# Altium footprint library SOT.PcbLib: 20 footprints (part 1 of 2)
Each footprint in its own frame and in the unit in brackets; x right, y up, seen from the top. Pads: shape width x height; smd on the part's side, far side on the other; paste and mask are expansions set on the pad; w line width, h text height; cw(c..) or ccw(c..) is an arc to the next point about the centre after c.
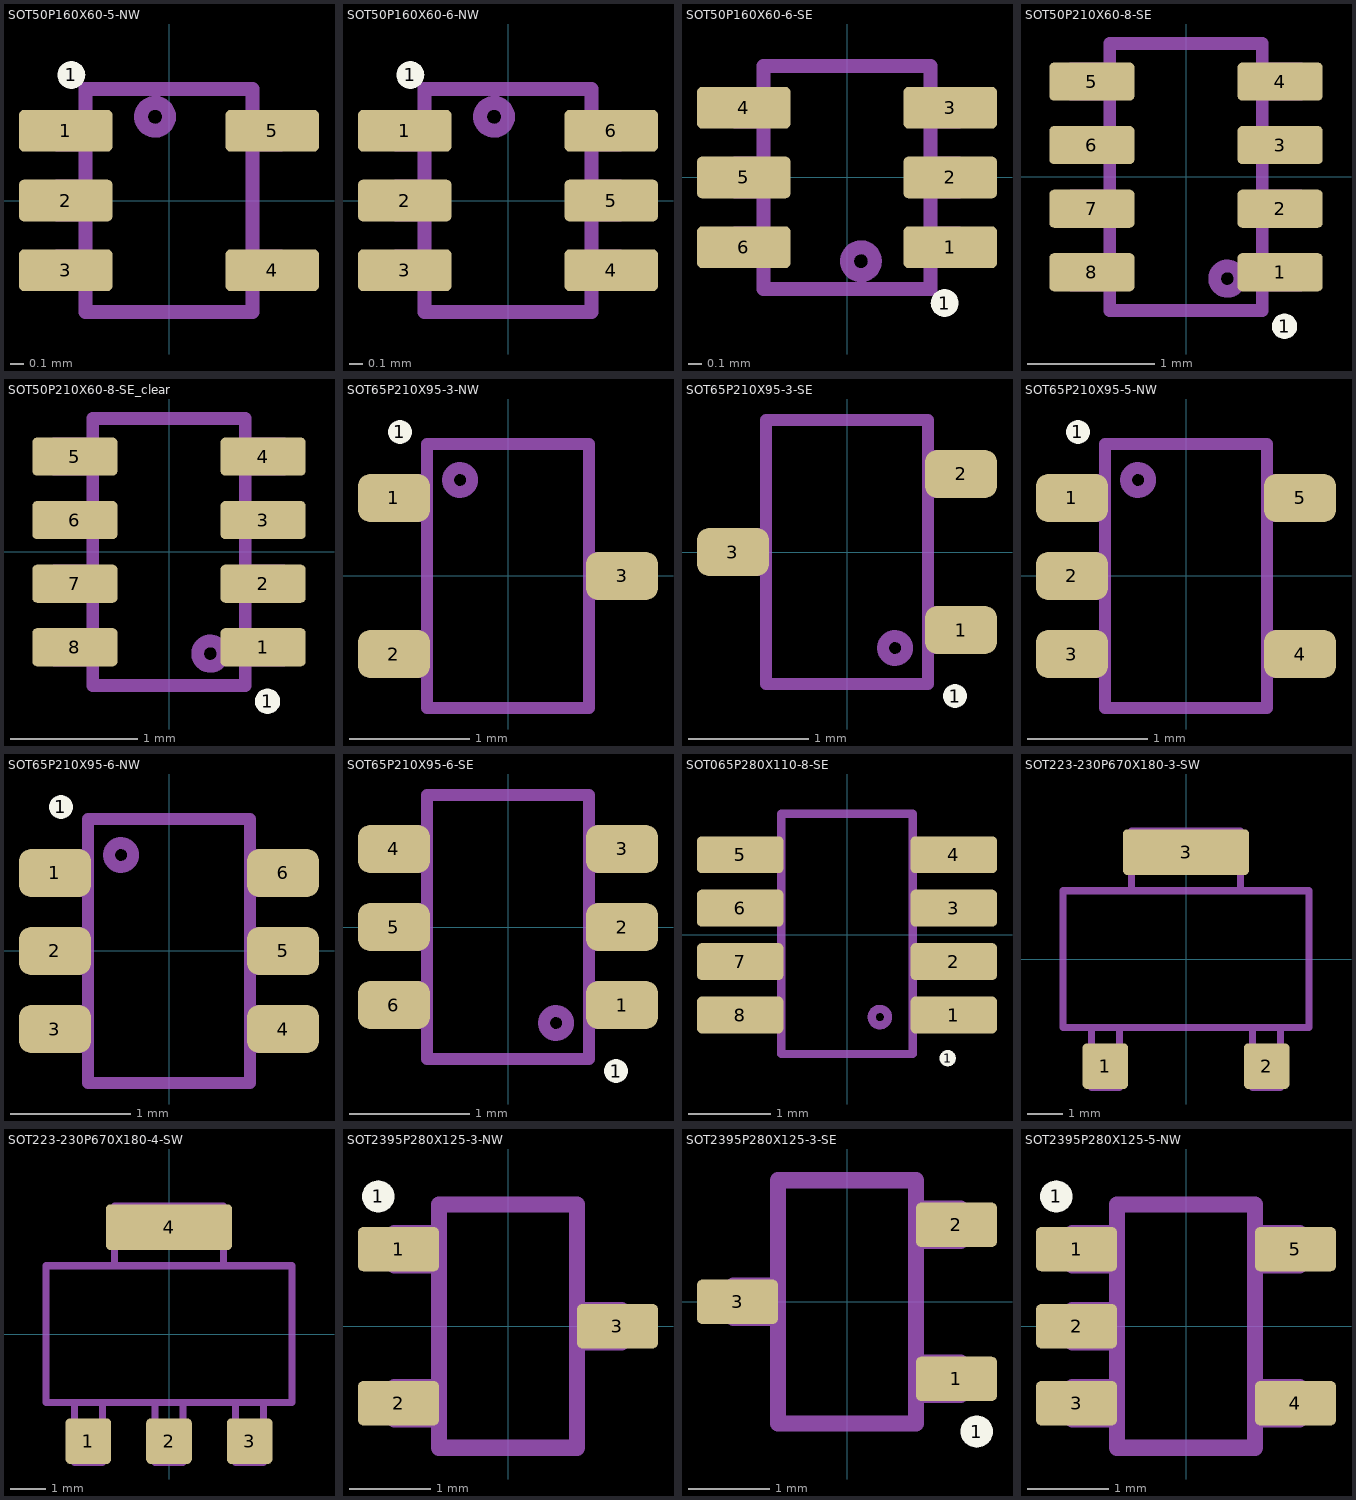
[diagram p0: the footprints below, top view; thin cyan lines are the x and y axes]

## SOT50P160X60-5-NW [mm] "SOT563"
height 0.6
pads (6):
  rrect25% 0.67x0.3 smd: 1(-0.74,0.5) 2(-0.74,0) 3(-0.74,-0.5) 4(0.74,-0.5) 5(0.74,0.5)
  round 0.2 on Top Overlay: 1(-0.7,0.9)
Top Assembly:
  circle w0.1: c-0.1,0.6 r0.1
  lines w0.1: -0.6,-0.6 -0.8,-0.6 -0.8,-0.4 -0.6,-0.4 ; -0.6,-0.1 -0.8,-0.1 -0.8,0.1 -0.6,0.1 ; -0.6,0.4 -0.8,0.4 -0.8,0.6 -0.6,0.6 ; 0.6,-0.6 0.8,-0.6 0.8,-0.4 0.6,-0.4 ; 0.6,0.4 0.8,0.4 0.8,0.6 0.6,0.6 ; -0.6,-0.8 0.6,-0.8 0.6,0.8 -0.6,0.8 -0.6,-0.8
3D body "SOT050P160X60-SOT553.stp": height 0.6, standoff 0, extent -0.8,-0.8 0.8,0.8

## SOT50P160X60-6-NW [mm] "SOT563"
height 0.6
pads (7):
  rrect25% 0.67x0.3 smd: 1(-0.74,0.5) 2(-0.74,0) 3(-0.74,-0.5) 4(0.74,-0.5) 5(0.74,0) 6(0.74,0.5)
  round 0.2 on Top Overlay: 1(-0.7,0.9)
Top Assembly:
  circle w0.1: c-0.1,0.6 r0.1
  lines w0.1: -0.6,-0.6 -0.8,-0.6 -0.8,-0.4 -0.6,-0.4 ; -0.6,-0.1 -0.8,-0.1 -0.8,0.1 -0.6,0.1 ; -0.6,0.4 -0.8,0.4 -0.8,0.6 -0.6,0.6 ; 0.6,-0.6 0.8,-0.6 0.8,-0.4 0.6,-0.4 ; 0.6,-0.1 0.8,-0.1 0.8,0.1 0.6,0.1 ; 0.6,0.4 0.8,0.4 0.8,0.6 0.6,0.6 ; -0.6,-0.8 -0.6,0.8 0.6,0.8 0.6,-0.8 -0.6,-0.8
3D body "SOT50P160X60-6.stp": height 0.6, standoff 0, extent -0.8,-0.8 0.8,0.8

## SOT50P160X60-6-SE [mm] "SOT563"
height 0.6
pads (7):
  round 0.2 on Top Overlay: 1(0.7,-0.9)
  rrect25% 0.67x0.3 smd: 1(0.74,-0.5) 2(0.74,0) 3(0.74,0.5) 4(-0.74,0.5) 5(-0.74,0) 6(-0.74,-0.5)
Top Assembly:
  circle w0.1: c0.1,-0.6 r0.1
  lines w0.1: -0.6,-0.6 -0.8,-0.6 -0.8,-0.4 -0.6,-0.4 ; -0.6,-0.1 -0.8,-0.1 -0.8,0.1 -0.6,0.1 ; -0.6,0.4 -0.8,0.4 -0.8,0.6 -0.6,0.6 ; 0.6,-0.6 0.8,-0.6 0.8,-0.4 0.6,-0.4 ; 0.6,-0.1 0.8,-0.1 0.8,0.1 0.6,0.1 ; 0.6,0.4 0.8,0.4 0.8,0.6 0.6,0.6 ; -0.6,-0.8 0.6,-0.8 0.6,0.8 -0.6,0.8 -0.6,-0.8
3D body "SOT50P160X60-6.stp": height 0.6, standoff 0, extent -0.8,-0.8 0.8,0.8

## SOT50P210X60-8-SE [mm] "SOT583"
height 0.6
pads (9):
  rrect25% 0.67x0.3 smd: 1(0.74,-0.75) 2(0.74,-0.25) 3(0.74,0.25) 4(0.74,0.75) 5(-0.74,0.75) 6(-0.74,0.25) 7(-0.74,-0.25) 8(-0.74,-0.75)
  round 0.2 on Top Overlay: 1(0.775,-1.175)
Top Assembly:
  circle w0.1: c0.325,-0.8 r0.1
  lines w0.1: -0.6,-0.85 -0.9,-0.85 -0.9,-0.65 -0.6,-0.65 ; -0.6,-0.35 -0.9,-0.35 -0.9,-0.15 -0.6,-0.15 ; -0.6,0.15 -0.9,0.15 -0.9,0.35 -0.6,0.35 ; -0.6,0.65 -0.9,0.65 -0.9,0.85 -0.6,0.85 ; 0.6,-0.85 0.9,-0.85 0.9,-0.65 0.6,-0.65 ; 0.6,-0.35 0.9,-0.35 0.9,-0.15 0.6,-0.15 ; 0.6,0.15 0.9,0.15 0.9,0.35 0.6,0.35 ; 0.6,0.65 0.9,0.65 0.9,0.85 0.6,0.85 ; -0.6,-1.05 0.6,-1.05 0.6,1.05 -0.6,1.05 -0.6,-1.05
3D body "SOT50P160X60-8-SE_SOT583.stp": height 0.6, standoff 0, extent -0.8,-1.05 0.8,1.05

## SOT50P210X60-8-SE_clear [mm] "SOT583"
height 0.6
pads (9):
  rrect25% 0.67x0.3 smd: 1(0.74,-0.75) 2(0.74,-0.25) 3(0.74,0.25) 4(0.74,0.75) 5(-0.74,0.75) 6(-0.74,0.25) 7(-0.74,-0.25) 8(-0.74,-0.75)
  round 0.2 on Top Overlay: 1(0.775,-1.175)
Top Assembly:
  circle w0.1: c0.325,-0.8 r0.1
  lines w0.1: -0.6,-0.85 -0.9,-0.85 -0.9,-0.65 -0.6,-0.65 ; -0.6,-0.35 -0.9,-0.35 -0.9,-0.15 -0.6,-0.15 ; -0.6,0.15 -0.9,0.15 -0.9,0.35 -0.6,0.35 ; -0.6,0.65 -0.9,0.65 -0.9,0.85 -0.6,0.85 ; 0.6,-0.85 0.9,-0.85 0.9,-0.65 0.6,-0.65 ; 0.6,-0.35 0.9,-0.35 0.9,-0.15 0.6,-0.15 ; 0.6,0.15 0.9,0.15 0.9,0.35 0.6,0.35 ; 0.6,0.65 0.9,0.65 0.9,0.85 0.6,0.85 ; -0.6,-1.05 0.6,-1.05 0.6,1.05 -0.6,1.05 -0.6,-1.05
3D body "SOT50P160X60-8-SOT583_clear.stp": height 0.6, standoff 0, extent -0.8,-1.05 0.8,1.05

## SOT65P210X95-3-NW [mm] "SOT-323"
pads (4):
  rrect50% 0.6x0.4 smd: 1(-0.95,0.65) 2(-0.95,-0.65) 3(0.95,0)
  round 0.2 on Top Overlay: 1(-0.9,1.2)
Top Assembly:
  circle w0.1: c-0.4,0.8 r0.1
  lines w0.1: -0.675,-0.8 -1.1,-0.8 -1.1,-0.5 -0.675,-0.5 ; -0.675,0.5 -1.1,0.5 -1.1,0.8 -0.675,0.8 ; 1.1,-0.15 0.675,-0.15 1.1,-0.15 ; 1.1,-0.15 1.1,0.15 ; 1.1,-0.15 1.1,0.15 ; 1.1,0.15 0.675,0.15 1.1,0.15 ; -0.675,-1.1 -0.675,1.1 0.675,1.1 0.675,-1.1 -0.675,-1.1
3D body: height 1.1, standoff 0, extent -0.675,-1.1 0.675,1.1
3D body: height 1.11, standoff 1.1, extent -0.538,0.643 -0.238,0.943
3D body: height 0.15, standoff 0, extent 0.75,-0.15 1.1,0.15
3D body: height 0.65, standoff 0.15, extent 0.75,-0.15 0.9,0.15
3D body: height 0.8, standoff 0.65, extent 0.675,-0.15 0.9,0.15
3D body: height 0.8, standoff 0.65, extent -0.9,-0.8 -0.675,-0.5
3D body: height 0.65, standoff 0.15, extent -0.9,-0.8 -0.75,-0.5
3D body: height 0.15, standoff 0, extent -1.1,-0.8 -0.75,-0.5
3D body: height 0.8, standoff 0.65, extent -0.9,0.5 -0.675,0.8
3D body: height 0.65, standoff 0.15, extent -0.9,0.5 -0.75,0.8
3D body: height 0.15, standoff 0, extent -1.1,0.5 -0.75,0.8

## SOT65P210X95-3-SE [mm] "SOT-323"
pads (4):
  round 0.2 on Top Overlay: 1(0.9,-1.2)
  rrect50% 0.6x0.4 smd: 1(0.95,-0.65) 2(0.95,0.65) 3(-0.95,0)
Top Assembly:
  circle w0.1: c0.4,-0.8 r0.1
  lines w0.1: 0.675,-0.8 1.1,-0.8 1.1,-0.5 0.675,-0.5 ; 0.675,0.5 1.1,0.5 1.1,0.8 0.675,0.8 ; -1.1,-0.15 -1.1,0.15 ; -1.1,-0.15 -0.675,-0.15 -1.1,-0.15 ; -1.1,-0.15 -1.1,0.15 ; -1.1,0.15 -0.675,0.15 -1.1,0.15 ; -0.675,-1.1 0.675,-1.1 0.675,1.1 -0.675,1.1 -0.675,-1.1
3D body: height 0.15, standoff 0, extent 0.75,-0.8 1.1,-0.5
3D body: height 0.65, standoff 0.15, extent 0.75,-0.8 0.9,-0.5
3D body: height 0.8, standoff 0.65, extent 0.675,-0.8 0.9,-0.5
3D body: height 0.15, standoff 0, extent 0.75,0.5 1.1,0.8
3D body: height 0.65, standoff 0.15, extent 0.75,0.5 0.9,0.8
3D body: height 0.8, standoff 0.65, extent 0.675,0.5 0.9,0.8
3D body: height 0.8, standoff 0.65, extent -0.9,-0.15 -0.675,0.15
3D body: height 0.65, standoff 0.15, extent -0.9,-0.15 -0.75,0.15
3D body: height 0.15, standoff 0, extent -1.1,-0.15 -0.75,0.15
3D body: height 1.11, standoff 1.1, extent 0.238,-0.943 0.538,-0.643
3D body: height 1.1, standoff 0, extent -0.675,-1.1 0.675,1.1

## SOT65P210X95-5-NW [mm] "SC70-5"
pads (6):
  rrect50% 0.6x0.4 smd: 1(-0.95,0.65) 2(-0.95,0) 3(-0.95,-0.65) 4(0.95,-0.65) 5(0.95,0.65)
  round 0.2 on Top Overlay: 1(-0.9,1.2)
Top Assembly:
  circle w0.1: c-0.4,0.8 r0.1
  lines w0.1: -0.675,-0.8 -1.1,-0.8 -1.1,-0.5 -0.675,-0.5 ; -0.675,-0.15 -1.1,-0.15 -1.1,0.15 -0.675,0.15 ; -0.675,0.5 -1.1,0.5 -1.1,0.8 -0.675,0.8 ; 1.1,-0.8 0.675,-0.8 1.1,-0.8 ; 1.1,-0.8 1.1,-0.5 ; 1.1,-0.8 1.1,-0.5 ; 1.1,-0.5 0.675,-0.5 1.1,-0.5 ; 1.1,0.5 0.675,0.5 1.1,0.5 ; 1.1,0.5 1.1,0.8 ; 1.1,0.5 1.1,0.8 ; 1.1,0.8 0.675,0.8 1.1,0.8 ; -0.675,-1.1 -0.675,1.1 0.675,1.1 0.675,-1.1 -0.675,-1.1
3D body: height 1.1, standoff 0, extent -0.675,-1.1 0.675,1.1
3D body: height 1.11, standoff 1.1, extent -0.538,0.643 -0.238,0.943
3D body: height 0.15, standoff 0, extent 0.75,0.5 1.1,0.8
3D body: height 0.65, standoff 0.15, extent 0.75,0.5 0.9,0.8
3D body: height 0.8, standoff 0.65, extent 0.675,0.5 0.9,0.8
3D body: height 0.15, standoff 0, extent 0.75,-0.8 1.1,-0.5
3D body: height 0.65, standoff 0.15, extent 0.75,-0.8 0.9,-0.5
3D body: height 0.8, standoff 0.65, extent 0.675,-0.8 0.9,-0.5
3D body: height 0.8, standoff 0.65, extent -0.9,-0.8 -0.675,-0.5
3D body: height 0.65, standoff 0.15, extent -0.9,-0.8 -0.75,-0.5
3D body: height 0.15, standoff 0, extent -1.1,-0.8 -0.75,-0.5
3D body: height 0.8, standoff 0.65, extent -0.9,-0.15 -0.675,0.15
3D body: height 0.65, standoff 0.15, extent -0.9,-0.15 -0.75,0.15
3D body: height 0.15, standoff 0, extent -1.1,-0.15 -0.75,0.15
3D body: height 0.8, standoff 0.65, extent -0.9,0.5 -0.675,0.8
3D body: height 0.65, standoff 0.15, extent -0.9,0.5 -0.75,0.8
3D body: height 0.15, standoff 0, extent -1.1,0.5 -0.75,0.8

## SOT65P210X95-6-NW [mm] "SOT-363"
pads (7):
  rrect50% 0.6x0.4 smd: 1(-0.95,0.65) 2(-0.95,0) 3(-0.95,-0.65) 4(0.95,-0.65) 5(0.95,0) 6(0.95,0.65)
  round 0.2 on Top Overlay: 1(-0.9,1.2)
Top Assembly:
  circle w0.1: c-0.4,0.8 r0.1
  lines w0.1: -0.675,-0.8 -1.1,-0.8 -1.1,-0.5 -0.675,-0.5 ; -0.675,-0.15 -1.1,-0.15 -1.1,0.15 -0.675,0.15 ; -0.675,0.5 -1.1,0.5 -1.1,0.8 -0.675,0.8 ; 1.1,-0.8 0.675,-0.8 1.1,-0.8 ; 1.1,-0.8 1.1,-0.5 ; 1.1,-0.8 1.1,-0.5 ; 1.1,-0.5 0.675,-0.5 1.1,-0.5 ; 1.1,-0.15 0.675,-0.15 1.1,-0.15 ; 1.1,-0.15 1.1,0.15 ; 1.1,-0.15 1.1,0.15 ; 1.1,0.15 0.675,0.15 1.1,0.15 ; 1.1,0.5 0.675,0.5 1.1,0.5 ; 1.1,0.5 1.1,0.8 ; 1.1,0.5 1.1,0.8 ; 1.1,0.8 0.675,0.8 1.1,0.8 ; -0.675,-1.1 -0.675,1.1 0.675,1.1 0.675,-1.1 -0.675,-1.1
3D body: height 1.1, standoff 0, extent -0.675,-1.1 0.675,1.1
3D body: height 1.11, standoff 1.1, extent -0.538,0.643 -0.238,0.943
3D body: height 0.15, standoff 0, extent 0.75,0.5 1.1,0.8
3D body: height 0.65, standoff 0.15, extent 0.75,0.5 0.9,0.8
3D body: height 0.8, standoff 0.65, extent 0.675,0.5 0.9,0.8
3D body: height 0.15, standoff 0, extent 0.75,-0.15 1.1,0.15
3D body: height 0.65, standoff 0.15, extent 0.75,-0.15 0.9,0.15
3D body: height 0.8, standoff 0.65, extent 0.675,-0.15 0.9,0.15
3D body: height 0.15, standoff 0, extent 0.75,-0.8 1.1,-0.5
3D body: height 0.65, standoff 0.15, extent 0.75,-0.8 0.9,-0.5
3D body: height 0.8, standoff 0.65, extent 0.675,-0.8 0.9,-0.5
3D body: height 0.8, standoff 0.65, extent -0.9,-0.8 -0.675,-0.5
3D body: height 0.65, standoff 0.15, extent -0.9,-0.8 -0.75,-0.5
3D body: height 0.15, standoff 0, extent -1.1,-0.8 -0.75,-0.5
3D body: height 0.8, standoff 0.65, extent -0.9,-0.15 -0.675,0.15
3D body: height 0.65, standoff 0.15, extent -0.9,-0.15 -0.75,0.15
3D body: height 0.15, standoff 0, extent -1.1,-0.15 -0.75,0.15
3D body: height 0.8, standoff 0.65, extent -0.9,0.5 -0.675,0.8
3D body: height 0.65, standoff 0.15, extent -0.9,0.5 -0.75,0.8
3D body: height 0.15, standoff 0, extent -1.1,0.5 -0.75,0.8

## SOT65P210X95-6-SE [mm] "SOT-363"
pads (7):
  round 0.2 on Top Overlay: 1(0.9,-1.2)
  rrect50% 0.6x0.4 smd: 1(0.95,-0.65) 2(0.95,0) 3(0.95,0.65) 4(-0.95,0.65) 5(-0.95,0) 6(-0.95,-0.65)
Top Assembly:
  circle w0.1: c0.4,-0.8 r0.1
  lines w0.1: 0.675,-0.8 1.1,-0.8 1.1,-0.5 0.675,-0.5 ; 0.675,-0.15 1.1,-0.15 1.1,0.15 0.675,0.15 ; 0.675,0.5 1.1,0.5 1.1,0.8 0.675,0.8 ; -1.1,-0.8 -1.1,-0.5 ; -1.1,-0.8 -0.675,-0.8 -1.1,-0.8 ; -1.1,-0.8 -1.1,-0.5 ; -1.1,-0.5 -0.675,-0.5 -1.1,-0.5 ; -1.1,-0.15 -1.1,0.15 ; -1.1,-0.15 -0.675,-0.15 -1.1,-0.15 ; -1.1,-0.15 -1.1,0.15 ; -1.1,0.15 -0.675,0.15 -1.1,0.15 ; -1.1,0.5 -1.1,0.8 ; -1.1,0.5 -0.675,0.5 -1.1,0.5 ; -1.1,0.5 -1.1,0.8 ; -1.1,0.8 -0.675,0.8 -1.1,0.8 ; -0.675,-1.1 0.675,-1.1 0.675,1.1 -0.675,1.1 -0.675,-1.1
3D body: height 0.15, standoff 0, extent 0.75,-0.8 1.1,-0.5
3D body: height 0.65, standoff 0.15, extent 0.75,-0.8 0.9,-0.5
3D body: height 0.8, standoff 0.65, extent 0.675,-0.8 0.9,-0.5
3D body: height 0.15, standoff 0, extent 0.75,-0.15 1.1,0.15
3D body: height 0.65, standoff 0.15, extent 0.75,-0.15 0.9,0.15
3D body: height 0.8, standoff 0.65, extent 0.675,-0.15 0.9,0.15
3D body: height 0.15, standoff 0, extent 0.75,0.5 1.1,0.8
3D body: height 0.65, standoff 0.15, extent 0.75,0.5 0.9,0.8
3D body: height 0.8, standoff 0.65, extent 0.675,0.5 0.9,0.8
3D body: height 0.8, standoff 0.65, extent -0.9,0.5 -0.675,0.8
3D body: height 0.65, standoff 0.15, extent -0.9,0.5 -0.75,0.8
3D body: height 0.15, standoff 0, extent -1.1,0.5 -0.75,0.8
3D body: height 0.8, standoff 0.65, extent -0.9,-0.15 -0.675,0.15
3D body: height 0.65, standoff 0.15, extent -0.9,-0.15 -0.75,0.15
3D body: height 0.15, standoff 0, extent -1.1,-0.15 -0.75,0.15
3D body: height 0.8, standoff 0.65, extent -0.9,-0.8 -0.675,-0.5
3D body: height 0.65, standoff 0.15, extent -0.9,-0.8 -0.75,-0.5
3D body: height 0.15, standoff 0, extent -1.1,-0.8 -0.75,-0.5
3D body: height 1.11, standoff 1.1, extent 0.238,-0.943 0.538,-0.643
3D body: height 1.1, standoff 0, extent -0.675,-1.1 0.675,1.1

## SOT065P280X110-8-SE [mm] "SOT23-8"
height 0.6
pads (9):
  round 0.2 on Top Overlay: 1(1.225,-1.5)
  rrect25% 1.05x0.45 smd: 1(1.3,-0.975) 2(1.3,-0.325) 3(1.3,0.325) 4(1.3,0.975) 5(-1.3,0.975) 6(-1.3,0.325) 7(-1.3,-0.325) 8(-1.3,-0.975)
Top Assembly:
  circle w0.1: c0.4,-1 r0.1
  lines w0.1: -0.8,-1.075 -1.46,-1.075 -1.46,-0.875 -0.8,-0.874 ; -0.8,-0.423 -1.46,-0.425 -1.46,-0.225 -0.8,-0.222 ; -0.8,0.225 -1.46,0.225 -1.46,0.425 -0.8,0.425 ; -0.8,0.875 -1.46,0.875 -1.46,1.075 -0.8,1.07 ; 0.8,-1.075 1.46,-1.075 1.46,-0.875 0.8,-0.875 ; 0.8,-0.425 1.46,-0.425 1.46,-0.225 0.8,-0.225 ; 0.8,0.225 1.46,0.225 1.46,0.425 0.8,0.425 ; 0.8,0.875 1.46,0.875 1.46,1.075 0.8,1.075 ; -0.8,-1.45 0.8,-1.45 0.8,1.475 -0.8,1.475 -0.8,-1.45
3D body: height 1, standoff 0.87, extent -1.1,-1.125 -0.8,-0.825
3D body: height 0.87, standoff 0.13, extent -1.1,-1.125 -0.95,-0.825
3D body: height 0.13, standoff 0, extent -1.4,-1.125 -0.95,-0.825
3D body: height 1, standoff 0.87, extent -1.1,-0.475 -0.8,-0.175
3D body: height 0.87, standoff 0.13, extent -1.1,-0.475 -0.95,-0.175
3D body: height 0.13, standoff 0, extent -1.4,-0.475 -0.95,-0.175
3D body: height 1, standoff 0.87, extent -1.1,0.175 -0.8,0.475
3D body: height 0.87, standoff 0.13, extent -1.1,0.175 -0.95,0.475
3D body: height 0.13, standoff 0, extent -1.4,0.175 -0.95,0.475
3D body: height 1, standoff 0.87, extent -1.1,0.825 -0.8,1.125
3D body: height 0.87, standoff 0.13, extent -1.1,0.825 -0.95,1.125
3D body: height 0.13, standoff 0, extent -1.4,0.825 -0.95,1.125
3D body: height 1, standoff 0.87, extent 0.8,0.825 1.1,1.125
3D body: height 0.87, standoff 0.13, extent 0.95,0.825 1.1,1.125
3D body: height 0.13, standoff 0, extent 0.95,0.825 1.4,1.125
3D body: height 1, standoff 0.87, extent 0.8,0.175 1.1,0.475
3D body: height 0.87, standoff 0.13, extent 0.95,0.175 1.1,0.475
3D body: height 0.13, standoff 0, extent 0.95,0.175 1.4,0.475
3D body: height 1, standoff 0.87, extent 0.8,-0.475 1.1,-0.175
3D body: height 0.87, standoff 0.13, extent 0.95,-0.475 1.1,-0.175
3D body: height 0.13, standoff 0, extent 0.95,-0.475 1.4,-0.175
3D body: height 1.26, standoff 1.25, extent 0.2,-1.199 0.6,-0.801
3D body: height 1, standoff 0.87, extent 0.8,-1.125 1.1,-0.825
3D body: height 0.87, standoff 0.13, extent 0.95,-1.125 1.1,-0.825
3D body: height 0.13, standoff 0, extent 0.95,-1.125 1.4,-0.825
3D body: height 1.1, standoff 0.1, extent -0.8,-1.45 0.8,1.45

## SOT223-230P670X180-3-SW [mm]
pads (3):
  rrect20% 1.3x1.3 smd: 1(-2.3,-3.05) 2(2.3,-3.05)
  rrect20% 3.6x1.3 smd: 3(0,3.05)
Top Assembly:
  lines w0.2: -2.7,-1.95 -2.7,-3.65 -1.9,-3.65 -1.9,-1.95 ; -1.55,1.95 -1.55,3.65 1.55,3.65 1.55,1.95 ; 1.9,-1.95 1.9,-3.65 2.7,-3.65 2.7,-1.95 ; -3.5,-1.95 3.5,-1.95 3.5,1.95 -3.5,1.95 -3.5,-1.95
3D body: height 0.91, standoff 0.01, extent 1.9,-3.65 2.7,-1.95
3D body: height 0.91, standoff 0.01, extent -2.7,-3.65 -1.9,-1.95
3D body: height 0.91, standoff 0.01, extent -1.55,1.95 1.55,3.65
3D body: height 1.8, standoff 0.05, extent -3.5,-1.95 3.5,1.95

## SOT223-230P670X180-4-SW [mm]
pads (4):
  rrect20% 1.3x1.3 smd: 1(-2.3,-3.05) 2(0,-3.05) 3(2.3,-3.05)
  rrect20% 3.6x1.3 smd: 4(0,3.05)
Top Assembly:
  lines w0.2: -2.7,-1.95 -2.7,-3.65 -1.9,-3.65 -1.9,-1.95 ; -1.55,1.95 -1.55,3.65 1.55,3.65 1.55,1.95 ; -0.4,-1.95 -0.4,-3.65 0.4,-3.65 0.4,-1.95 ; 1.9,-1.95 1.9,-3.65 2.7,-3.65 2.7,-1.95 ; -3.5,-1.95 3.5,-1.95 3.5,1.95 -3.5,1.95 -3.5,-1.95
3D body: height 0.91, standoff 0.01, extent 1.9,-3.65 2.7,-1.95
3D body: height 0.91, standoff 0.01, extent -2.7,-3.65 -1.9,-1.95
3D body: height 0.91, standoff 0.01, extent -1.55,1.95 1.55,3.65
3D body: height 0.91, standoff 0.01, extent -0.4,-3.65 0.4,-1.95
3D body: height 1.8, standoff 0.05, extent -3.5,-1.95 3.5,1.95

## SOT2395P280X125-3-NW [mm] "SOT23-3, SC74"
pads (4):
  round 0.4 on Top Overlay: 1(-1.6,1.6)
  rrect25% 1x0.55 smd: 1(-1.35,0.95) 2(-1.35,-0.95) 3(1.35,0)
Top Assembly:
  lines w0.2: -0.85,-1.15 -1.4,-1.15 -1.4,-0.75 -0.85,-0.75 ; -0.85,0.75 -1.4,0.75 -1.4,1.15 -0.85,1.15 ; 0.85,-0.2 1.4,-0.2 1.4,0.2 0.85,0.2 ; -0.85,-1.5 0.85,-1.5 0.85,1.5 -0.85,1.5 -0.85,-1.5
3D body: height 1.25, standoff 0.1, extent -0.8,-1.45 0.8,1.45
3D body: height 0.13, standoff 0, extent -1.4,0.75 -0.95,1.15
3D body: height 0.87, standoff 0.13, extent -1.1,0.75 -0.95,1.15
3D body: height 1, standoff 0.87, extent -1.1,0.75 -0.8,1.15
3D body: height 0.13, standoff 0, extent -1.4,-1.15 -0.95,-0.75
3D body: height 0.87, standoff 0.13, extent -1.1,-1.15 -0.95,-0.75
3D body: height 1, standoff 0.87, extent -1.1,-1.15 -0.8,-0.75
3D body: height 0.13, standoff 0, extent 0.95,-0.2 1.4,0.2
3D body: height 0.87, standoff 0.13, extent 0.95,-0.2 1.1,0.2
3D body: height 1, standoff 0.87, extent 0.8,-0.2 1.1,0.2
3D body: height 1.26, standoff 1.25, extent -0.6,0.801 -0.2,1.199

## SOT2395P280X125-3-SE [mm] "SOT23-3, SC74"
pads (4):
  rrect25% 1x0.55 smd: 1(1.35,-0.95) 2(1.35,0.95) 3(-1.35,0)
  round 0.4 on Top Overlay: 1(1.6,-1.6)
Top Assembly:
  lines w0.2: -0.85,-0.2 -1.4,-0.2 -1.4,0.2 -0.85,0.2 ; 0.85,-1.15 1.4,-1.15 1.4,-0.75 0.85,-0.75 ; 0.85,0.75 1.4,0.75 1.4,1.15 0.85,1.15 ; -0.85,-1.5 -0.85,1.5 0.85,1.5 0.85,-1.5 -0.85,-1.5
3D body: height 1.26, standoff 1.25, extent 0.2,-1.199 0.6,-0.801
3D body: height 1, standoff 0.87, extent -1.1,-0.2 -0.8,0.2
3D body: height 0.87, standoff 0.13, extent -1.1,-0.2 -0.95,0.2
3D body: height 0.13, standoff 0, extent -1.4,-0.2 -0.95,0.2
3D body: height 1, standoff 0.87, extent 0.8,0.75 1.1,1.15
3D body: height 0.87, standoff 0.13, extent 0.95,0.75 1.1,1.15
3D body: height 0.13, standoff 0, extent 0.95,0.75 1.4,1.15
3D body: height 1, standoff 0.87, extent 0.8,-1.15 1.1,-0.75
3D body: height 0.87, standoff 0.13, extent 0.95,-1.15 1.1,-0.75
3D body: height 0.13, standoff 0, extent 0.95,-1.15 1.4,-0.75
3D body: height 1.25, standoff 0.1, extent -0.8,-1.45 0.8,1.45

## SOT2395P280X125-5-NW [mm] "SOT23-5"
pads (6):
  round 0.4 on Top Overlay: 1(-1.6,1.6)
  rrect25% 1x0.55 smd: 1(-1.35,0.95) 2(-1.35,0) 3(-1.35,-0.95) 4(1.35,-0.95) 5(1.35,0.95)
Top Assembly:
  lines w0.2: -0.85,-1.15 -1.4,-1.15 -1.4,-0.75 -0.85,-0.75 ; -0.85,-0.2 -1.4,-0.2 -1.4,0.2 -0.85,0.2 ; -0.85,0.75 -1.4,0.75 -1.4,1.15 -0.85,1.15 ; 0.85,-1.15 1.4,-1.15 1.4,-0.75 0.85,-0.75 ; 0.85,0.75 1.4,0.75 1.4,1.15 0.85,1.15 ; -0.85,-1.5 -0.85,1.5 0.85,1.5 0.85,-1.5 -0.85,-1.5
3D body: height 1.26, standoff 1.25, extent -0.6,0.801 -0.2,1.199
3D body: height 1, standoff 0.87, extent 0.8,0.75 1.1,1.15
3D body: height 0.87, standoff 0.13, extent 0.95,0.75 1.1,1.15
3D body: height 0.13, standoff 0, extent 0.95,0.75 1.4,1.15
3D body: height 1, standoff 0.87, extent 0.8,-1.15 1.1,-0.75
3D body: height 0.87, standoff 0.13, extent 0.95,-1.15 1.1,-0.75
3D body: height 0.13, standoff 0, extent 0.95,-1.15 1.4,-0.75
3D body: height 1, standoff 0.87, extent -1.1,-1.15 -0.8,-0.75
3D body: height 0.87, standoff 0.13, extent -1.1,-1.15 -0.95,-0.75
3D body: height 0.13, standoff 0, extent -1.4,-1.15 -0.95,-0.75
3D body: height 1, standoff 0.87, extent -1.1,0.75 -0.8,1.15
3D body: height 0.87, standoff 0.13, extent -1.1,0.75 -0.95,1.15
3D body: height 0.13, standoff 0, extent -1.4,0.75 -0.95,1.15
3D body: height 0.13, standoff 0, extent -1.4,-0.2 -0.95,0.2
3D body: height 0.87, standoff 0.13, extent -1.1,-0.2 -0.95,0.2
3D body: height 1, standoff 0.87, extent -1.1,-0.2 -0.8,0.2
3D body: height 1.25, standoff 0.1, extent -0.8,-1.45 0.8,1.45